# Altium schematic symbol library C_TDK.SchLib: 80 symbols
Pins are listed as number, name and electrical type; pins without a type are passive.

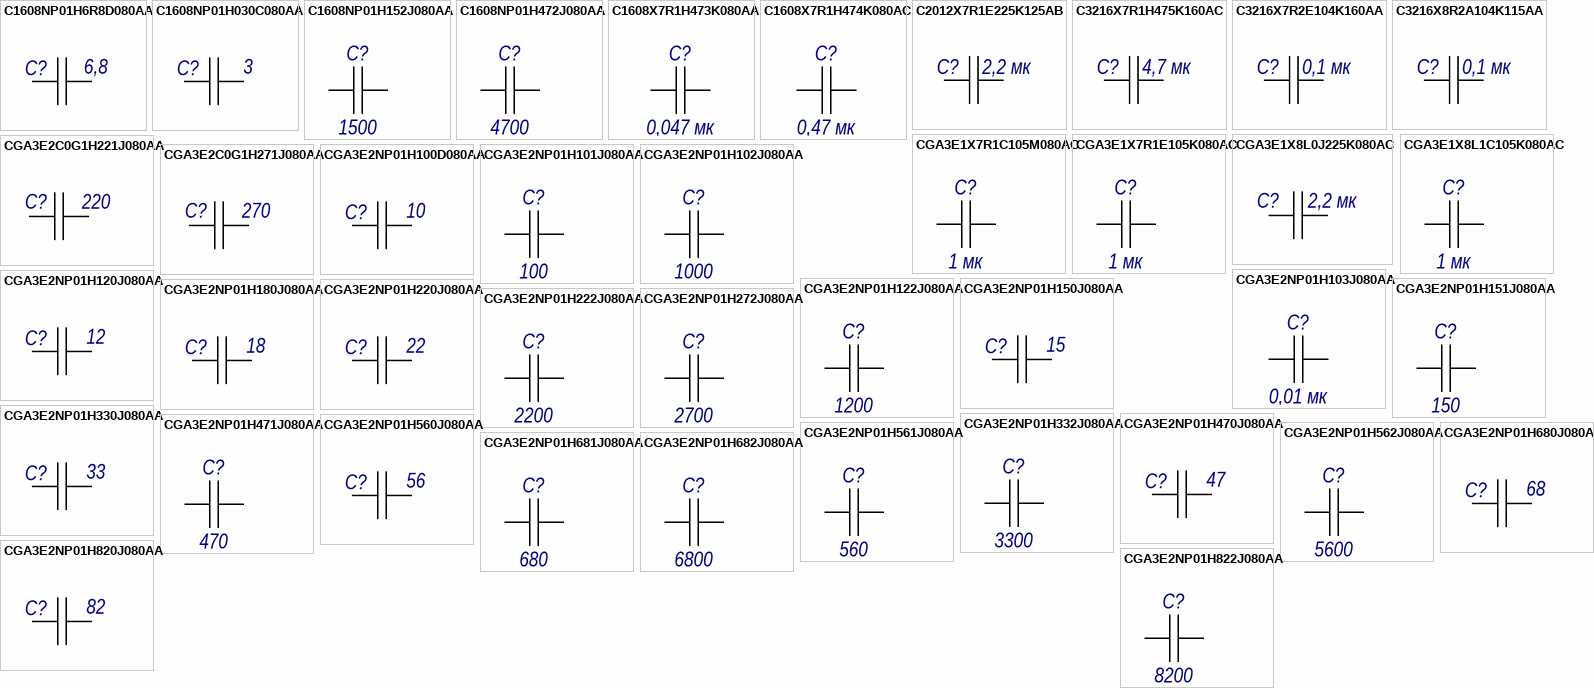
[diagram p0: symbols C1608NP01H6R8D080AA to CGA3E2NP01H822J080AA]

## C1608NP01H6R8D080AA
designator C?, comment value 6,8  (hidden comment: Конденсатор C1608NP01H6R8D080AA фирма "TDK")
чип 0603-NP0-50 В-6,8 п ±0,5 п TDK; TCh: ±0,5 п; NomU: 50 В; TKE: NP0; Manufacturer: TDK; PartNumber: C1608NP01H6R8D080AA; GOST: Конденсатор C1608NP01H6R8D080AA фирма "TDK"
footprint C0603_H090M (Dim 1.6mm*0.8mm H=0.9mm)
pins: 1, 2
1 alternate drawing of the same symbol

## C1608NP01H030C080AA
designator C?, comment value 3  (hidden comment: Конденсатор C1608NP01H030C080AA фирма "TDK")
чип 0603-NP0-50 В-3 п ± 0,25 пФ TDK; TCh: ±0,25 пФ; NomU: 50 В; TKE: NP0; Manufacturer: TDK; PartNumber: C1608NP01H030C080AA; GOST: Конденсатор C1608NP01H030C080AA фирма "TDK"
footprint C0603_H090M (Dim 1.6mm*0.8mm H=0.9mm)
pins: 1, 2
1 alternate drawing of the same symbol

## C1608NP01H152J080AA
designator C?, comment value 1500  (hidden comment: Конденсатор C1608NP01H152J080AA фирма "TDK")
чип 0603-NP0-50 В-1500 п ±5% TDK; NomU: 50 В; TKE: NP0; Manufacturer: TDK; PartNumber: C1608NP01H152J080AA; TCh: 5%; GOST: Конденсатор C1608NP01H152J080AA фирма "TDK"
footprint C0603_H090M (Dim 1.6mm*0.8mm H=0.9mm)
pins: 1, 2
1 alternate drawing of the same symbol

## C1608NP01H472J080AA
designator C?, comment value 4700  (hidden comment: Конденсатор C1608NP01H472J080AA фирма "TDK")
чип 0603-NP0-50 В-4700 п ±5% TDK; NomU: 50 В; TKE: NP0; Manufacturer: TDK; PartNumber: C1608NP01H472J080AA; TCh: 5%; GOST: Конденсатор C1608NP01H472J080AA фирма "TDK"
footprint C0603_H090M (Dim 1.6mm*0.8mm H=0.9mm)
pins: 1, 2
1 alternate drawing of the same symbol

## C1608X7R1H473K080AA
designator C?, comment value 0,047 мк  (hidden comment: Конденсатор C1608X7R1H473K080AA фирма "TDK")
чип 0603-X7R-50 В-0,047 мк ±10%  TDK; NomU: 50 В; TKE: X7R; Manufacturer: TDK; PartNumber: C1608X7R1H473K080AA; TCh: 10%; GOST: Конденсатор C1608X7R1H473K080AA фирма "TDK"
footprint C0603_H090M (Dim 1.6mm*0.8mm H=0.9mm)
pins: 1, 2
1 alternate drawing of the same symbol

## C1608X7R1H474K080AC
designator C?, comment value 0,47 мк  (hidden comment: Конденсатор C1608X7R1H474K080AC фирма "TDK")
чип 0603-X7R-50 В-0,47 мк ±10% TDK; NomU: 50 В; TKE: X7R; Manufacturer: TDK; PartNumber: C1608X7R1H474K080AC; TCh: 10%; GOST: Конденсатор C1608X7R1H474K080AC фирма "TDK"
footprint C0603_H090M (Dim 1.6mm*0.8mm H=0.9mm)
pins: 1, 2
1 alternate drawing of the same symbol

## C2012X7R1E225K125AB
designator C?, comment value 2,2 мк  (hidden comment: Конденсатор C2012X7R1E225K125AB фирма "TDK")
чип 0805-X7R-25 В-2,2 мк ±10% TDK; NomU: 25В; TKE: X7R; Manufacturer: TDK; PartNumber: C2012X7R1E225K125AB; TCh: 10%; GOST: Конденсатор C2012X7R1E225K125AB фирма "TDK"
footprint C0805_H135M (Dim 2mm*1.25mm H=1.35mm)
pins: 1, 2
1 alternate drawing of the same symbol

## C3216X7R1H475K160AC
designator C?, comment value 4,7 мк  (hidden comment: Конденсатор C3216X7R1H475K160AC фирма "TDK")
чип 1206-X7R-50 В-4,7 мк ±10% TDK; NomU: 50В; TKE: X7R; Manufacturer: TDK; PartNumber: C3216X7R1H475K160AC; TCh: 10%; GOST: Конденсатор C3216X7R1H475K160AC фирма "TDK"
footprint C1206_H180M (Dim 3.2mm*1.6mm H=1.8mm)
pins: 1, 2
1 alternate drawing of the same symbol

## C3216X7R2E104K160AA
designator C?, comment value 0,1 мк  (hidden comment: Конденсатор C3216X7R2E104K160AA фирма "TDK")
чип 1206-X7R-250 В-0,1 мк ±10% TDK; NomU: 250В; TKE: X7R; Manufacturer: TDK; PartNumber: C3216X7R2E104K160AA; TCh: 10%; GOST: Конденсатор C3216X7R2E104K160AA фирма "TDK"
footprint C1206_H180M (Dim 3.2mm*1.6mm H=1.8mm)
pins: 1, 2
1 alternate drawing of the same symbol

## C3216X8R2A104K115AA
designator C?, comment value 0,1 мк  (hidden comment: Конденсатор C3216X8R2A104K115AA фирма "TDK")
чип 1206-X8R-100 В-0,1 мк ±10% TDK; NomU: 100В; TKE: X8R; Manufacturer: TDK; PartNumber: C3216X8R2A104K115AA; TCh: 10%; GOST: Конденсатор C3216X8R2A104K115AA фирма "TDK"
footprint C1206_H130M (Dim 3.2mm*1.6mm H=1.15mm)
pins: 1, 2
1 alternate drawing of the same symbol

## CGA3E1X7R1C105M080AC
designator C?, comment value 1 мк  (hidden comment: Конденсатор CGA3E1X7R1C105M080AC фирма "TDK")
чип 0603-X7R-16 В-1 мк ±20% TDK; NomU: 16 В; TKE: X7R; Manufacturer: TDK; PartNumber: CGA3E1X7R1C105M080AC; TCh: 20%; GOST: Конденсатор CGA3E1X7R1C105M080AC фирма "TDK"
footprint C0603_H090M (Dim 1.6mm*0.8mm H=0.9mm)
pins: 1, 2
1 alternate drawing of the same symbol

## CGA3E1X7R1E105K080AC
designator C?, comment value 1 мк  (hidden comment: Конденсатор CGA3E1X7R1E105K080AC фирма "TDK")
чип 0603-X7R-25 В-1 мк ±10% TDK; NomU: 25 В; TKE: X7R; Manufacturer: TDK; PartNumber: CGA3E1X7R1E105K080AC; TCh: 10%; GOST: Конденсатор CGA3E1X7R1E105K080AC фирма "TDK"
footprint C0603_H090M (Dim 1.6mm*0.8mm H=0.9mm)
pins: 1, 2
1 alternate drawing of the same symbol

## CGA3E1X8L0J225K080AC
designator C?, comment value 2,2 мк  (hidden comment: Конденсатор CGA3E1X8L0J225K080AC фирма "TDK")
чип 0603-X8L-6,3 В-2,2 мк ±10% TDK 150C; NomU: 6,3 В; TKE: X8L; Manufacturer: TDK; PartNumber: CGA3E1X8L0J225K080AC; TCh: 10%; GOST: Конденсатор CGA3E1X8L0J225K080AC фирма "TDK"
footprint C0603_H090M (Dim 1.6mm*0.8mm H=0.9mm)
pins: 1, 2
1 alternate drawing of the same symbol

## CGA3E1X8L1C105K080AC
designator C?, comment value 1 мк  (hidden comment: Конденсатор CGA3E1X8L1C105K080AC фирма "TDK")
чип 0603-X8L-16 В-1 мк ±10% TDK; NomU: 16 В; TKE: X8L; Manufacturer: TDK; PartNumber: CGA3E1X8L1C105K080AC; TCh: 10%; GOST: Конденсатор CGA3E1X8L1C105K080AC фирма "TDK"
footprint C0603_H090M (Dim 1.6mm*0.8mm H=0.9mm)
pins: 1, 2
1 alternate drawing of the same symbol

## CGA3E2C0G1H221J080AA
designator C?, comment value 220  (hidden comment: Конденсатор CGA3E2C0G1H221J080AA фирма "TDK")
чип 0603-NP0-50 В-220 п ±5% TDK; NomU: 50В; TKE: NPO; Manufacturer: TDK; PartNumber: CGA3E2C0G1H221J080AA; TCh: 5%; GOST: Конденсатор CGA3E2C0G1H221J080AA фирма "TDK"
footprint C0603_H090M (Dim 1.6mm*0.8mm H=0.9mm)
pins: 1, 2
1 alternate drawing of the same symbol

## CGA3E2C0G1H271J080AA
designator C?, comment value 270  (hidden comment: Конденсатор CGA3E2C0G1H271J080AA фирма "TDK")
чип 0603-NP0-50 В-270 п ±5% TDK; NomU: 50В; TKE: NPO; Manufacturer: TDK; PartNumber: CGA3E2C0G1H271J080AA; TCh: 5%; GOST: Конденсатор CGA3E2C0G1H271J080AA фирма "TDK"
footprint C0603_H090M (Dim 1.6mm*0.8mm H=0.9mm)
pins: 1, 2
1 alternate drawing of the same symbol

## CGA3E2NP01H100D080AA
designator C?, comment value 10  (hidden comment: Конденсатор CGA3E2NP01H100D080AA фирма "TDK")
чип 0603-NP0-50 В-10 п ±0,5п TDK; TCh: ±0,5 п; NomU: 50 В; TKE: NP0; Manufacturer: TDK; PartNumber: CGA3E2NP01H100D080AA; GOST: Конденсатор CGA3E2NP01H100D080AA фирма "TDK"
footprint C0603_H090M (Dim 1.6mm*0.8mm H=0.9mm)
pins: 1, 2
1 alternate drawing of the same symbol

## CGA3E2NP01H101J080AA
designator C?, comment value 100  (hidden comment: Конденсатор CGA3E2NP01H101J080AA фирма "TDK")
чип 0603-NP0-50 В-100 п ±5% TDK; NomU: 50 В; TKE: NP0; Manufacturer: TDK; PartNumber: CGA3E2NP01H101J080AA; TCh: 5%; GOST: Конденсатор CGA3E2NP01H101J080AA фирма "TDK"
footprint C0603_H090M (Dim 1.6mm*0.8mm H=0.9mm)
footprint C0603_H090M (Dim 1.6mm*0.8mm H=0.9mm)
pins: 1, 2
1 alternate drawing of the same symbol

## CGA3E2NP01H102J080AA
designator C?, comment value 1000  (hidden comment: Конденсатор CGA3E2NP01H102J080AA фирма "TDK")
чип 0603-NP0-50 В-1000 п ±5% TDK; NomU: 50 В; TKE: NP0; Manufacturer: TDK; PartNumber: CGA3E2NP01H102J080AA; TCh: 5%; GOST: Конденсатор CGA3E2NP01H102J080AA фирма "TDK"
footprint C0603_H090M (Dim 1.6mm*0.8mm H=0.9mm)
pins: 1, 2
1 alternate drawing of the same symbol

## CGA3E2NP01H103J080AA
designator C?, comment value 0,01 мк  (hidden comment: Конденсатор CGA3E2NP01H103J080AA фирма "TDK")
чип 0603-NP0-50 В-0,01 мк ±5% TDK; NomU: 50 В; TKE: NP0; Manufacturer: TDK; PartNumber: CGA3E2NP01H103J080AA; TCh: 5%; GOST: Конденсатор CGA3E2NP01H103J080AA фирма "TDK"
footprint C0603_H090M (Dim 1.6mm*0.8mm H=0.9mm)
pins: 1, 2
1 alternate drawing of the same symbol

## CGA3E2NP01H120J080AA
designator C?, comment value 12  (hidden comment: Конденсатор CGA3E2NP01H120J080AA фирма "TDK")
чип 0603-NP0-50 В-12 п ±5 % TDK; TCh: ±5 %; NomU: 50 В; TKE: NP0; Manufacturer: TDK; PartNumber: CGA3E2NP01H120J080AA; GOST: Конденсатор CGA3E2NP01H120J080AA фирма "TDK"
footprint C0603_H090M (Dim 1.6mm*0.8mm H=0.9mm)
pins: 1, 2
1 alternate drawing of the same symbol

## CGA3E2NP01H122J080AA
designator C?, comment value 1200  (hidden comment: Конденсатор CGA3E2NP01H122J080AA фирма "TDK")
чип 0603-NP0-50 В-1200 п NP0 ±5% TDK; NomU: 50 В; Manufacturer: TDK; PartNumber: CGA3E2NP01H122J080AA; TCh: 5%; TKE: NP0; GOST: Конденсатор CGA3E2NP01H122J080AA фирма "TDK"
footprint C0603_H090M (Dim 1.6mm*0.8mm H=0.9mm)
pins: 1, 2
1 alternate drawing of the same symbol

## CGA3E2NP01H150J080AA
designator C?, comment value 15  (hidden comment: Конденсатор CGA3E2NP01H150J080AA фирма "TDK")
чип 0603-NP0-50 В-15 п ±5 % TDK; TCh: ±5 %; NomU: 50 В; TKE: NP0; Manufacturer: TDK; PartNumber: CGA3E2NP01H150J080AA; GOST: Конденсатор CGA3E2NP01H150J080AA фирма "TDK"
footprint C0603_H090M (Dim 1.6mm*0.8mm H=0.9mm)
pins: 1, 2
1 alternate drawing of the same symbol

## CGA3E2NP01H151J080AA
designator C?, comment value 150  (hidden comment: Конденсатор CGA3E2NP01H151J080AA фирма "TDK")
чип 0603-NP0-50 В-150 п ±5% TDK; NomU: 50 В; TKE: NP0; Manufacturer: TDK; PartNumber: CGA3E2NP01H151J080AA; TCh: 5%; GOST: Конденсатор CGA3E2NP01H151J080AA фирма "TDK"
footprint C0603_H090M (Dim 1.6mm*0.8mm H=0.9mm)
pins: 1, 2
1 alternate drawing of the same symbol

## CGA3E2NP01H180J080AA
designator C?, comment value 18  (hidden comment: Конденсатор CGA3E2NP01H180J080AA фирма "TDK")
чип 0603-NP0-50 В-18 п ±5 % TDK; TCh: ±5 %; NomU: 50 В; TKE: NP0; Manufacturer: TDK; PartNumber: CGA3E2NP01H180J080AA; GOST: Конденсатор CGA3E2NP01H180J080AA фирма "TDK"
footprint C0603_H090M (Dim 1.6mm*0.8mm H=0.9mm)
pins: 1, 2
1 alternate drawing of the same symbol

## CGA3E2NP01H220J080AA
designator C?, comment value 22  (hidden comment: Конденсатор CGA3E2NP01H220J080AA фирма "TDK")
чип 0603-NP0-50 В-22 п ±5 % TDK; TCh: ±5 %; NomU: 50 В; TKE: NP0; Manufacturer: TDK; PartNumber: CGA3E2NP01H220J080AA; GOST: Конденсатор CGA3E2NP01H220J080AA фирма "TDK"
footprint C0603_H090M (Dim 1.6mm*0.8mm H=0.9mm)
pins: 1, 2
1 alternate drawing of the same symbol

## CGA3E2NP01H222J080AA
designator C?, comment value 2200  (hidden comment: Конденсатор CGA3E2NP01H222J080AA фирма "TDK")
чип 0603-NP0-50 В-2200 п ±5% TDK; NomU: 50 В; TKE: NP0; Manufacturer: TDK; PartNumber: CGA3E2NP01H222J080AA; TCh: 5%; GOST: Конденсатор CGA3E2NP01H222J080AA фирма "TDK"
footprint C0603_H090M (Dim 1.6mm*0.8mm H=0.9mm)
pins: 1, 2
1 alternate drawing of the same symbol

## CGA3E2NP01H272J080AA
designator C?, comment value 2700  (hidden comment: Конденсатор CGA3E2NP01H272J080AA фирма "TDK")
чип 0603-NP0-50 В-2700 п ±5% TDK; NomU: 50 В; TKE: NP0; Manufacturer: TDK; PartNumber: CGA3E2NP01H272J080AA; TCh: 5%; GOST: Конденсатор CGA3E2NP01H272J080AA фирма "TDK"
footprint C0603_H090M (Dim 1.6mm*0.8mm H=0.9mm)
pins: 1, 2
1 alternate drawing of the same symbol

## CGA3E2NP01H330J080AA
designator C?, comment value 33  (hidden comment: Конденсатор CGA3E2NP01H330J080AA фирма "TDK")
чип 0603-NP0-50 В-33 п ±5 % TDK; TCh: ±5 %; NomU: 50 В; TKE: NP0; Manufacturer: TDK; PartNumber: CGA3E2NP01H330J080AA; GOST: Конденсатор CGA3E2NP01H330J080AA фирма "TDK"
footprint C0603_H090M (Dim 1.6mm*0.8mm H=0.9mm)
pins: 1, 2
1 alternate drawing of the same symbol

## CGA3E2NP01H332J080AA
designator C?, comment value 3300  (hidden comment: Конденсатор CGA3E2NP01H332J080AA фирма "TDK")
чип 0603-NP0-50 В-3300 п ±5% TDK; NomU: 50 В; TKE: NP0; Manufacturer: TDK; PartNumber: CGA3E2NP01H332J080AA; TCh: 5%; GOST: Конденсатор CGA3E2NP01H332J080AA фирма "TDK"
footprint C0603_H090M (Dim 1.6mm*0.8mm H=0.9mm)
pins: 1, 2
1 alternate drawing of the same symbol

## CGA3E2NP01H470J080AA
designator C?, comment value 47  (hidden comment: Конденсатор CGA3E2NP01H470J080AA фирма "TDK")
чип 0603-NP0-50 В-47 п ±5 % TDK; TCh: ±5 %; NomU: 50 В; TKE: NP0; Manufacturer: TDK; PartNumber: CGA3E2NP01H470J080AA; GOST: Конденсатор CGA3E2NP01H470J080AA фирма "TDK"; Size: 1.6x0.8x0.8
footprint C0603_H090M (Dim 1.6mm*0.8mm H=0.9mm)
pins: 1, 2
1 alternate drawing of the same symbol

## CGA3E2NP01H471J080AA
designator C?, comment value 470  (hidden comment: Конденсатор CGA3E2NP01H471J080AA фирма "TDK")
чип 0603-NP0-50 В-470 п ±5% TDK; NomU: 50 В; TKE: NP0; Manufacturer: TDK; PartNumber: CGA3E2NP01H471J080AA; TCh: 5%; GOST: Конденсатор CGA3E2NP01H471J080AA фирма "TDK"
footprint C0603_H090M (Dim 1.6mm*0.8mm H=0.9mm)
pins: 1, 2
1 alternate drawing of the same symbol

## CGA3E2NP01H560J080AA
designator C?, comment value 56  (hidden comment: Конденсатор CGA3E2NP01H560J080AA фирма "TDK")
чип 0603-NP0-50 В-56 п ±5 % TDK; TCh: ±5 %; NomU: 50 В; TKE: NP0; Manufacturer: TDK; PartNumber: CGA3E2NP01H560J080AA; GOST: Конденсатор CGA3E2NP01H560J080AA фирма "TDK"; Size: 1.6x0.8x0.8
footprint C0603_H090M (Dim 1.6mm*0.8mm H=0.9mm)
pins: 1, 2
1 alternate drawing of the same symbol

## CGA3E2NP01H561J080AA
designator C?, comment value 560  (hidden comment: Конденсатор CGA3E2NP01H561J080AA фирма "TDK")
чип 0603-NP0-50 В-560 п NP0 ±5% TDK; NomU: 50 В; Manufacturer: TDK; PartNumber: CGA3E2NP01H561J080AA; TCh: 5%; TKE: NP0; GOST: Конденсатор CGA3E2NP01H561J080AA фирма "TDK"
footprint C0603_H090M (Dim 1.6mm*0.8mm H=0.9mm)
pins: 1, 2
1 alternate drawing of the same symbol

## CGA3E2NP01H562J080AA
designator C?, comment value 5600  (hidden comment: Конденсатор CGA3E2NP01H562J080AA фирма "TDK")
чип 0603-NP0-50 В-5600 п ±5% TDK; NomU: 50 В; TKE: NP0; Manufacturer: TDK; PartNumber: CGA3E2NP01H562J080AA; TCh: 5%; GOST: Конденсатор CGA3E2NP01H562J080AA фирма "TDK"
footprint C0603_H090M (Dim 1.6mm*0.8mm H=0.9mm)
pins: 1, 2
1 alternate drawing of the same symbol

## CGA3E2NP01H680J080AA
designator C?, comment value 68  (hidden comment: Конденсатор CGA3E2NP01H680J080AA фирма "TDK")
чип 0603-NP0-50 В-68 п ±5 % TDK; TCh: ±5 %; NomU: 50 В; TKE: NP0; Manufacturer: TDK; PartNumber: CGA3E2NP01H680J080AA; GOST: Конденсатор CGA3E2NP01H680J080AA фирма "TDK"
footprint C0603_H090M (Dim 1.6mm*0.8mm H=0.9mm)
pins: 1, 2
1 alternate drawing of the same symbol

## CGA3E2NP01H681J080AA
designator C?, comment value 680  (hidden comment: Конденсатор CGA3E2NP01H681J080AA фирма "TDK")
чип 0603-NP0-50 В-680 п ±5% TDK; NomU: 50 В; TKE: NP0; Manufacturer: TDK; PartNumber: CGA3E2NP01H681J080AA; TCh: 5%; GOST: Конденсатор CGA3E2NP01H681J080AA фирма "TDK"
footprint C0603_H090M (Dim 1.6mm*0.8mm H=0.9mm)
pins: 1, 2
1 alternate drawing of the same symbol

## CGA3E2NP01H682J080AA
designator C?, comment value 6800  (hidden comment: Конденсатор CGA3E2NP01H682J080AA фирма "TDK")
чип 0603-NP0-50 В-6800 п ±5% TDK; NomU: 50 В; TKE: NP0; Manufacturer: TDK; PartNumber: CGA3E2NP01H682J080AA; TCh: 5%; GOST: Конденсатор CGA3E2NP01H682J080AA фирма "TDK"
footprint C0603_H090M (Dim 1.6mm*0.8mm H=0.9mm)
pins: 1, 2
1 alternate drawing of the same symbol

## CGA3E2NP01H820J080AA
designator C?, comment value 82  (hidden comment: Конденсатор CGA3E2NP01H820J080AA фирма "TDK")
чип 0603-NP0-50 В-82 п ±5 % TDK; TCh: ±5 %; NomU: 50 В; TKE: NP0; Manufacturer: TDK; PartNumber: CGA3E2NP01H820J080AA; GOST: Конденсатор CGA3E2NP01H820J080AA фирма "TDK"
footprint C0603_H090M (Dim 1.6mm*0.8mm H=0.9mm)
pins: 1, 2
1 alternate drawing of the same symbol

## CGA3E2NP01H822J080AA
designator C?, comment value 8200  (hidden comment: Конденсатор CGA3E2NP01H822J080AA фирма "TDK")
чип 0603-NP0-50 В-8200 п ±5% TDK; NomU: 50 В; TKE: NP0; Manufacturer: TDK; PartNumber: CGA3E2NP01H822J080AA; TCh: 5%; GOST: Конденсатор CGA3E2NP01H822J080AA фирма "TDK"
footprint C0603_H090M (Dim 1.6mm*0.8mm H=0.9mm)
pins: 1, 2
1 alternate drawing of the same symbol

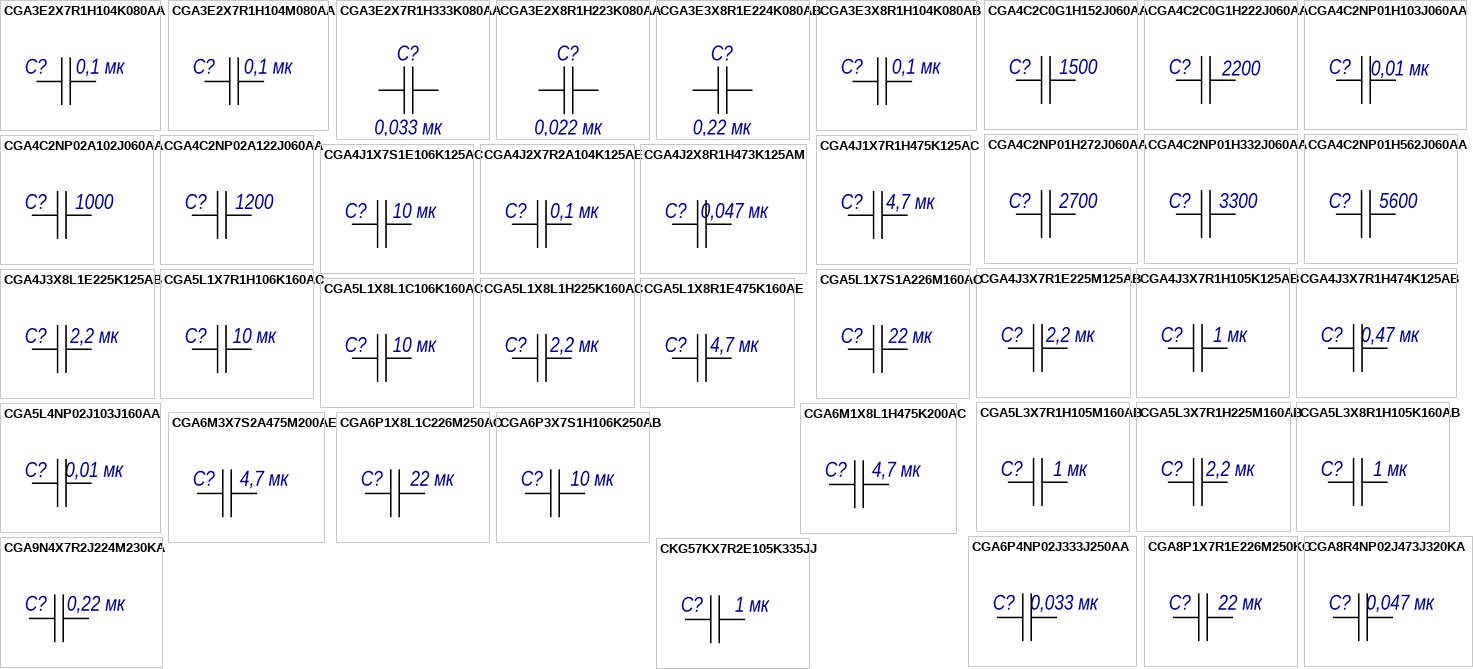
[diagram p1: symbols CGA3E2X7R1H104K080AA to CKG57KX7R2E105K335JJ]

## CGA3E2X7R1H104K080AA
designator C?, comment value 0,1 мк  (hidden comment: Конденсатор CGA3E2X7R1H104K080AA фирма "TDK")
чип 0603-X7R-50 В-0,1 мк ±10% TDK; NomU: 50 В; TKE: X7R; Manufacturer: TDK; PartNumber: CGA3E2X7R1H104K080AA; TCh: 10%; GOST: Конденсатор CGA3E2X7R1H104K080AA фирма "TDK"
footprint C0603_H090M (Dim 1.6mm*0.8mm H=0.9mm)
pins: 1, 2
1 alternate drawing of the same symbol

## CGA3E2X7R1H104M080AA
designator C?, comment value 0,1 мк  (hidden comment: Конденсатор CGA3E2X7R1H104M080AA фирма "TDK")
чип 0603-X7R-50 В-0,1 мк ±20% TDK; NomU: 50 В; TKE: X7R; Manufacturer: TDK; PartNumber: CGA3E2X7R1H104M080AA; TCh: 20%; GOST: Конденсатор CGA3E2X7R1H104M080AA фирма "TDK"
footprint C0603_H090M (Dim 1.6mm*0.8mm H=0.9mm)
pins: 1, 2
1 alternate drawing of the same symbol

## CGA3E2X7R1H333K080AA
designator C?, comment value 0,033 мк  (hidden comment: Конденсатор CGA3E2X7R1H333K080AA фирма "TDK")
чип 0603-X7R-50 В-0,033 мк ±10% TDK; NomU: 50 В; TKE: X7R; Manufacturer: TDK; PartNumber: CGA3E2X7R1H333K080AA; TCh: 10%; GOST: Конденсатор CGA3E2X7R1H333K080AA фирма "TDK"
footprint C0603_H090M (Dim 1.6mm*0.8mm H=0.9mm)
pins: 1, 2
1 alternate drawing of the same symbol

## CGA3E2X8R1H223K080AA
designator C?, comment value 0,022 мк  (hidden comment: Конденсатор CGA3E2X8R1H223K080AA фирма "TDK")
чип 0603-X8R-50 В-0,022 мк ±10% TDK; NomU: 50 В; TKE: X8R; Manufacturer: TDK; PartNumber: CGA3E2X8R1H223K080AA; TCh: 10%; GOST: Конденсатор CGA3E2X8R1H223K080AA фирма "TDK"
footprint C0603_H090M (Dim 1.6mm*0.8mm H=0.9mm)
pins: 1, 2
1 alternate drawing of the same symbol

## CGA3E3X8R1E224K080AB
designator C?, comment value 0,22 мк  (hidden comment: Конденсатор CGA3E3X8R1E224K080AB фирма "TDK")
чип 0603-X8R-25 В-0,22 мк ±10% TDK; NomU: 25 В; TKE: X8R; Manufacturer: TDK; PartNumber: CGA3E3X8R1E224K080AB; TCh: 10%; GOST: Конденсатор CGA3E3X8R1E224K080AB фирма "TDK"
footprint C0603_H090M (Dim 1.6mm*0.8mm H=0.9mm)
pins: 1, 2
1 alternate drawing of the same symbol

## CGA3E3X8R1H104K080AB
designator C?, comment value 0,1 мк  (hidden comment: Конденсатор CGA3E3X8R1H104K080AB фирма "TDK")
чип 0603-X8R-50 В-0,1 мк ±10% TDK; NomU: 50 В; TKE: X8R; Manufacturer: TDK; PartNumber: CGA3E3X8R1H104K080AB; TCh: 10%; GOST: Конденсатор CGA3E3X8R1H104K080AB фирма "TDK"
footprint C0603_H090M (Dim 1.6mm*0.8mm H=0.9mm)
pins: 1, 2
1 alternate drawing of the same symbol

## CGA4C2C0G1H152J060AA
designator C?, comment value 1500  (hidden comment: Конденсатор CGA4C2C0G1H152J060AA фирма "TDK")
чип 0805-NP0-50 В-1500 п ±5% TDK; NomU: 50В; TKE: NP0; Manufacturer: TDK; PartNumber: CGA4C2C0G1H152J060AA; TCh: 5%; GOST: Конденсатор CGA4C2C0G1H152J060AA фирма "TDK"
footprint C0805_H135M (Dim 2mm*1.25mm H=1.35mm)
pins: 1, 2
1 alternate drawing of the same symbol

## CGA4C2C0G1H222J060AA
designator C?, comment value 2200  (hidden comment: Конденсатор CGA4C2C0G1H222J060AA фирма "TDK")
чип 0805-NP0-50 В-2200 п ±5% TDK; NomU: 50В; TKE: NP0; Manufacturer: TDK; PartNumber: CGA4C2C0G1H222J060AA; TCh: 5%; GOST: Конденсатор CGA4C2C0G1H222J060AA фирма "TDK"
footprint C0805_H090M (Dim 2mm*1.25mm H=0.9mm)
pins: 1, 2
1 alternate drawing of the same symbol

## CGA4C2NP01H103J060AA
designator C?, comment value 0,01 мк  (hidden comment: Конденсатор CGA4C2NP01H103J060AA фирма "TDK")
чип 0805-NP0-50 В-0,01 мк ± 5% TDK; NomU: 50В; TKE: NP0; Manufacturer: TDK; PartNumber: CGA4C2NP01H103J060AA; TCh: 5%; GOST: Конденсатор CGA4C2NP01H103J060AA фирма "TDK"
footprint C0805_H090M (Dim 2mm*1.25mm H=0.9mm)
pins: 1, 2
1 alternate drawing of the same symbol

## CGA4C2NP01H272J060AA
designator C?, comment value 2700  (hidden comment: Конденсатор CGA4C2NP01H272J060AA фирма "TDK")
чип 0805-NP0-50 В-2700 п ±5% TDK; NomU: 50В; TKE: NP0; Dim: 2х1.25х0.6 mm; Manufacturer: TDK; PartNumber: CGA4C2NP01H272J060AA; TCh: 5%; GOST: Конденсатор CGA4C2NP01H272J060AA фирма "TDK"
footprint C0805_H090M (Dim 2mm*1.25mm H=0.9mm)
pins: 1, 2
1 alternate drawing of the same symbol

## CGA4C2NP01H332J060AA
designator C?, comment value 3300  (hidden comment: Конденсатор CGA4C2NP01H332J060AA фирма "TDK")
чип 0805-NP0-50 В-3300 п ±5% TDK; NomU: 50В; TKE: NP0; Dim: 2х1.25х0.6 mm; Manufacturer: TDK; PartNumber: CGA4C2NP01H332J060AA; TCh: 5%; GOST: Конденсатор CGA4C2NP01H332J060AA фирма "TDK"
footprint C0805_H090M (Dim 2mm*1.25mm H=0.9mm)
pins: 1, 2
1 alternate drawing of the same symbol

## CGA4C2NP01H562J060AA
designator C?, comment value 5600  (hidden comment: Конденсатор CGA4C2NP01H562J060AA фирма "TDK")
чип 0805-NP0-50 В-5600 п ±5% TDK; NomU: 50В; TKE: NP0; Dim: 2х1.25х0.6 mm; Manufacturer: TDK; PartNumber: CGA4C2NP01H562J060AA; TCh: 5%; GOST: Конденсатор CGA4C2NP01H562J060AA фирма "TDK"
footprint C0805_H090M (Dim 2mm*1.25mm H=0.9mm)
pins: 1, 2
1 alternate drawing of the same symbol

## CGA4C2NP02A102J060AA
designator C?, comment value 1000  (hidden comment: Конденсатор CGA4C2NP02A102J060AA фирма "TDK")
чип 0805-NP0-100 В-1000 п ±5% TDK; NomU: 100В; TKE: NP0; Dim: 2х1.25х0.75 mm; Manufacturer: TDK; PartNumber: CGA4C2NP02A102J060AA; TCh: 5%; GOST: Конденсатор CGA4C2NP02A102J060AA фирма "TDK"
footprint C0805_H090M (Dim 2mm*1.25mm H=0.9mm)
pins: 1, 2
1 alternate drawing of the same symbol

## CGA4C2NP02A122J060AA
designator C?, comment value 1200  (hidden comment: Конденсатор CGA4C2NP02A122J060AA фирма "TDK")
чип 0805-NP0-100 В-1200 п ±5% TDK; NomU: 100В; TKE: NP0; Dim: 2х1.25х0.6 mm; Manufacturer: TDK; PartNumber: CGA4C2NP02A122J060AA; TCh: 5%; GOST: Конденсатор CGA4C2NP02A122J060AA фирма "TDK"
footprint C0805_H090M (Dim 2mm*1.25mm H=0.9mm)
pins: 1, 2
1 alternate drawing of the same symbol

## CGA4J1X7R1H475K125AC
designator C?, comment value 4,7 мк  (hidden comment: Конденсатор CGA4J1X7R1H475K125AC фирма "TDK")
чип 0805-X7R-50 В-4,7 мк ±10% TDK; NomU: 50В; TKE: X7R; Manufacturer: TDK; PartNumber: CGA4J1X7R1H475K125AC; TCh: 10%; GOST: Конденсатор CGA4J1X7R1H475K125AC фирма "TDK"
footprint C0805_H135M (Dim 2mm*1.25mm H=1.35mm)
pins: 1, 2
1 alternate drawing of the same symbol

## CGA4J1X7S1E106K125AC
designator C?, comment value 10 мк  (hidden comment: Конденсатор CGA4J1X7S1E106K125AC фирма "TDK")
чип 0805-X7S-25 В-10 мк ±10% TDK; NomU: 25В; TKE: X7S; Manufacturer: TDK; PartNumber: CGA4J1X7S1E106K125AC; TCh: 10%; GOST: Конденсатор CGA4J1X7S1E106K125AC фирма "TDK"
footprint C0805_H135M (Dim 2mm*1.25mm H=1.35mm)
pins: 1, 2
1 alternate drawing of the same symbol

## CGA4J2X7R2A104K125AE
designator C?, comment value 0,1 мк  (hidden comment: Конденсатор CGA4J2X7R2A104K125AE фирма "TDK")
чип 0805-X7R-100 В-0,1 мк ±10% TDK; NomU: 100В; TKE: X7R; Manufacturer: TDK; PartNumber: CGA4J2X7R2A104K125AE; TCh: 10%; GOST: Конденсатор CGA4J2X7R2A104K125AE фирма "TDK"
footprint C0805_H135M (Dim 2mm*1.25mm H=1.35mm)
pins: 1, 2
1 alternate drawing of the same symbol

## CGA4J2X8R1H473K125AM
designator C?, comment value 0,047 мк  (hidden comment: Конденсатор CGA4J2X8R1H473K125AM фирма "TDK")
чип 0805-X8R-50 В-0,047 мк ±10% TDK; NomU: 50В; TKE: X8R; Manufacturer: TDK; PartNumber: CGA4J2X8R1H473K125AM; TCh: 10%; GOST: Конденсатор CGA4J2X8R1H473K125AM фирма "TDK"
footprint C0805_H135M (Dim 2mm*1.25mm H=1.35mm)
pins: 1, 2
1 alternate drawing of the same symbol

## CGA4J3X7R1E225M125AB
designator C?, comment value 2,2 мк  (hidden comment: Конденсатор CGA4J3X7R1E225M125AB фирма "TDK")
чип 0805-X7R-25 В-2,2 мк ±20% TDK; NomU: 25В; TKE: X7R; Manufacturer: TDK; PartNumber: CGA4J3X7R1E225M125AB; TCh: 20%; GOST: Конденсатор CGA4J3X7R1E225M125AB фирма "TDK"
footprint C0805_H135M (Dim 2mm*1.25mm H=1.35mm)
pins: 1, 2
1 alternate drawing of the same symbol

## CGA4J3X7R1H105K125AB
designator C?, comment value 1 мк  (hidden comment: Конденсатор CGA4J3X7R1H105K125AB  фирма "TDK")
чип 0805-X7R-50 В-1 мк ±10% TDK; NomU: 50В; TKE: X7R; Manufacturer: TDK; PartNumber: CGA4J3X7R1H105K125AB; TCh: 10%; GOST: Конденсатор CGA4J3X7R1H105K125AB  фирма "TDK"
footprint C0805_H135M (Dim 2mm*1.25mm H=1.35mm)
pins: 1, 2
1 alternate drawing of the same symbol

## CGA4J3X7R1H474K125AB
designator C?, comment value 0,47 мк  (hidden comment: Конденсатор CGA4J3X7R1H474K125AB фирма "TDK")
чип 0805-X7R-50 В-0,47 мк ±10% TDK; NomU: 50В; TKE: X7R; Manufacturer: TDK; PartNumber: CGA4J3X7R1H474K125AB; TCh: 10%; GOST: Конденсатор CGA4J3X7R1H474K125AB фирма "TDK"
footprint C0805_H135M (Dim 2mm*1.25mm H=1.35mm)
pins: 1, 2
1 alternate drawing of the same symbol

## CGA4J3X8L1E225K125AB
designator C?, comment value 2,2 мк  (hidden comment: Конденсатор CGA4J3X8L1E225K125AB фирма "TDK")
чип 0805-X8L-25 В-2,2 мк ±10% TDK; NomU: 25В; TKE: X8L; Manufacturer: TDK; PartNumber: CGA4J3X8L1E225K125AB; TCh: 10%; GOST: Конденсатор CGA4J3X8L1E225K125AB фирма "TDK"
footprint C0805_H135M (Dim 2mm*1.25mm H=1.35mm)
pins: 1, 2
1 alternate drawing of the same symbol

## CGA5L1X7R1H106K160AC
designator C?, comment value 10 мк  (hidden comment: Конденсатор CGA5L1X7R1H106K160AC фирма "TDK")
чип 1206-X7R-50 В-10 мк ±10% TDK; NomU: 50В; TKE: X7R; Manufacturer: TDK; PartNumber: CGA5L1X7R1H106K160AC; TCh: 10%; GOST: Конденсатор CGA5L1X7R1H106K160AC фирма "TDK"
footprint C1206_H180M (Dim 3.2mm*1.6mm H=1.8mm)
pins: 1, 2
1 alternate drawing of the same symbol

## CGA5L1X7S1A226M160AC
designator C?, comment value 22 мк  (hidden comment: Конденсатор CGA5L1X7S1A226M160AC фирма "TDK")
чип 1206-X7S-10 В-22 мк ±20% TDK; NomU: 10В; TKE: X7S; Manufacturer: TDK; PartNumber: CGA5L1X7S1A226M160AC; TCh: 20%; GOST: Конденсатор CGA5L1X7S1A226M160AC фирма "TDK"
footprint C1206_H180M (Dim 3.2mm*1.6mm H=1.8mm)
pins: 1, 2
1 alternate drawing of the same symbol

## CGA5L1X8L1C106K160AC
designator C?, comment value 10 мк  (hidden comment: Конденсатор CGA5L1X8L1C106K160AC фирма "TDK")
чип 1206-X8L-16 В-10 мк ±10% TDK; NomU: 16В; TKE: X8L; Manufacturer: TDK; PartNumber: CGA5L1X8L1C106K160AC; TCh: 10%; GOST: Конденсатор CGA5L1X8L1C106K160AC фирма "TDK"
footprint C1206_H180M (Dim 3.2mm*1.6mm H=1.8mm)
pins: 1, 2
1 alternate drawing of the same symbol

## CGA5L1X8L1H225K160AC
designator C?, comment value 2,2 мк  (hidden comment: Конденсатор CGA5L1X8L1H225K160AC фирма "TDK")
чип 1206-X8L-50 В-2,2 мк ±10% TDK; NomU: 50В; TKE: X8L; Manufacturer: TDK; PartNumber: CGA5L1X8L1H225K160AC; TCh: 10%; GOST: Конденсатор CGA5L1X8L1H225K160AC фирма "TDK"
footprint C1206_H180M (Dim 3.2mm*1.6mm H=1.8mm)
pins: 1, 2
1 alternate drawing of the same symbol

## CGA5L1X8R1E475K160AE
designator C?, comment value 4,7 мк  (hidden comment: Конденсатор CGA5L1X8R1E475K160AE  фирма "TDK")
чип 1206-X8R-25 В-4,7 мк ±10% TDK; NomU: 25В; TKE: X8R; Manufacturer: TDK; PartNumber: CGA5L1X8R1E475K160AE; TCh: 10%; GOST: Конденсатор CGA5L1X8R1E475K160AE  фирма "TDK"
footprint C1206_H180M (Dim 3.2mm*1.6mm H=1.8mm)
pins: 1, 2
1 alternate drawing of the same symbol

## CGA5L3X7R1H105M160AB
designator C?, comment value 1 мк  (hidden comment: Конденсатор CGA5L3X7R1H105M160AB фирма "TDK")
чип 1206-X7R-50 В-1 мк ±20% TDK; NomU: 50В; TKE: X7R; Manufacturer: TDK; PartNumber: CGA5L3X7R1H105M160AB; TCh: 20%; GOST: Конденсатор CGA5L3X7R1H105M160AB фирма "TDK"
footprint C1206_H180M (Dim 3.2mm*1.6mm H=1.8mm)
pins: 1, 2
1 alternate drawing of the same symbol

## CGA5L3X7R1H225M160AB
designator C?, comment value 2,2 мк  (hidden comment: Конденсатор CGA5L3X7R1H225M160AB фирма "TDK")
чип 1206-X7R-50 В-2,2 мк ±20% TDK; NomU: 50В; TKE: X7R; Manufacturer: TDK; PartNumber: CGA5L3X7R1H225M160AB; TCh: 20%; GOST: Конденсатор CGA5L3X7R1H225M160AB фирма "TDK"
footprint C1206_H180M (Dim 3.2mm*1.6mm H=1.8mm)
pins: 1, 2
1 alternate drawing of the same symbol

## CGA5L3X8R1H105K160AB
designator C?, comment value 1 мк  (hidden comment: Конденсатор CGA5L3X8R1H105K160AB фирма "TDK")
чип 1206-X8R-50 В-1 мк ±10% TDK; NomU: 50В; TKE: X8R; Manufacturer: TDK; PartNumber: CGA5L3X8R1H105K160AB; TCh: 10%; GOST: Конденсатор CGA5L3X8R1H105K160AB фирма "TDK"
footprint C1206_H180M (Dim 3.2mm*1.6mm H=1.8mm)
pins: 1, 2
1 alternate drawing of the same symbol

## CGA5L4NP02J103J160AA
designator C?, comment value 0,01 мк  (hidden comment: Конденсатор CGA5L4NP02J103J160AA фирма "TDK")
чип 1206-NP0-630 В-0,01 мк ±5% TDK; NomU: 630В; TKE: NP0; Manufacturer: TDK; PartNumber: CGA5L4NP02J103J160AA; TCh: 5%; GOST: Конденсатор CGA5L4NP02J103J160AA фирма "TDK"
footprint C1206_H180M (Dim 3.2mm*1.6mm H=1.8mm)
pins: 1, 2
1 alternate drawing of the same symbol

## CGA6M1X8L1H475K200AC
designator C?, comment value 4,7 мк  (hidden comment: Конденсатор CGA6M1X8L1H475K200AC фирма "TDK")
чип 1210-X8L-50 В-4.7 мк ±10% TDK; NomU: 50В; TKE: X8L; Manufacturer: TDK; PartNumber: CGA6M1X8L1H475K200AC; TCh: 10%; GOST: Конденсатор CGA6M1X8L1H475K200AC фирма "TDK"
footprint C1210_H230M (Dim 3.2mm*2.5mm H=2.3mm)
pins: 1, 2
1 alternate drawing of the same symbol

## CGA6M3X7S2A475M200AE
designator C?, comment value 4,7 мк  (hidden comment: Конденсатор CGA6M3X7S2A475M200AE фирма "TDK")
чип 1210-X7S-100 В-4.7 мк ±20% TDK; NomU: 100В; TKE: X7S; Manufacturer: TDK; PartNumber: CGA6M3X7S2A475M200AE; TCh: 20%; GOST: Конденсатор CGA6M3X7S2A475M200AE фирма "TDK"
footprint C1210_H230M (Dim 3.2mm*2.5mm H=2.3mm)
pins: 1, 2
1 alternate drawing of the same symbol

## CGA6P1X8L1C226M250AC
designator C?, comment value 22 мк  (hidden comment: Конденсатор CGA6P1X8L1C226M250AC фирма "TDK")
чип 1210-X8L-16 В-22 мк ±20% TDK; NomU: 16В; TKE: X8L; Manufacturer: TDK; PartNumber: CGA6P1X8L1C226M250AC; TCh: 20%; GOST: Конденсатор CGA6P1X8L1C226M250AC фирма "TDK"
footprint C1210_H250M (Dim 3.2mm*2.5mm H=2.5mm)
pins: 1, 2
1 alternate drawing of the same symbol

## CGA6P3X7S1H106K250AB
designator C?, comment value 10 мк  (hidden comment: Конденсатор CGA6P3X7S1H106K250AB фирма "TDK")
чип 1210-X7S-50 В-10 мк ±10% TDK; NomU: 50В; TKE: X7S; Manufacturer: TDK; PartNumber: CGA6P3X7S1H106K250AB; TCh: 10%; GOST: Конденсатор CGA6P3X7S1H106K250AB фирма "TDK"
footprint C1210_H250M (Dim 3.2mm*2.5mm H=2.5mm)
pins: 1, 2
1 alternate drawing of the same symbol

## CGA6P4NP02J333J250AA
designator C?, comment value 0,033 мк  (hidden comment: Конденсатор CGA6P4NP02J333J250AA фирма "TDK")
чип 1210-NP0-630 В-0,033 мк ±5% TDK; NomU: 630В; TKE: NPO; Manufacturer: TDK; PartNumber: CGA6P4NP02J333J250AA; TCh: 5%; GOST: Конденсатор CGA6P4NP02J333J250AA фирма "TDK"
footprint C1210_H250M (Dim 3.2mm*2.5mm H=2.5mm)
pins: 1, 2
1 alternate drawing of the same symbol

## CGA8P1X7R1E226M250KC
designator C?, comment value 22 мк  (hidden comment: Конденсатор CGA8P1X7R1E226M250KC фирма "TDK")
чип 1812-X7R-25 В-22 мк ±20% TDK; NomU: 25В; TKE: X7R; Manufacturer: TDK; PartNumber: CGA8P1X7R1E226M250KC; TCh: 20%; GOST: Конденсатор CGA8P1X7R1E226M250KC фирма "TDK"
footprint C1812_H250M (Dim 4.5mm*3.2mm H=2.5mm)
pins: 1, 2
1 alternate drawing of the same symbol

## CGA8R4NP02J473J320KA
designator C?, comment value 0,047 мк  (hidden comment: Конденсатор CGA8R4NP02J473J320KA фирма "TDK")
чип 1812-NP0-630 В-0,047 мк ±5% TDK; NomU: 630В; TKE: NP0; Manufacturer: TDK; PartNumber: CGA8R4NP02J473J320KA; TCh: 5%; GOST: Конденсатор CGA8R4NP02J473J320KA фирма "TDK"
footprint C1812_H320M (Dim 4.5mm*3.2mm H=3.2mm)
pins: 1, 2
1 alternate drawing of the same symbol

## CGA9N4X7R2J224M230KA
designator C?, comment value 0,22 мк  (hidden comment: Конденсатор CGA9N4X7R2J224M230KA фирма "TDK")
чип 2220-X7R-630 В-0.22 мк ±20% TDK; NomU: 630В; TKE: X7R; Manufacturer: TDK; PartNumber: CGA9N4X7R2J224M230KA; TCh: 20%; GOST: Конденсатор CGA9N4X7R2J224M230KA фирма "TDK"
footprint C2220_H280M (Dim 5.7mm*5.0mm H=2.7mm)
pins: 1, 2
1 alternate drawing of the same symbol

## CKG57KX7R2E105K335JJ
designator C?, comment value 1 мк  (hidden comment: Конденсатор CKG57KX7R2E105K335JJ фирма "TDK")
чип 2220-X7R-250 В-1 мк ±10% TDK; NomU: 250В; TKE: X7R; Manufacturer: TDK; PartNumber: CKG57KX7R2E105K335JJ; TCh: 10%; GOST: Конденсатор CKG57KX7R2E105K335JJ фирма "TDK"; Height: 3.35mm
footprint C2220_H280M (Dim 5.7mm*5.0mm H=2.7mm)
pins: 1, 2
1 alternate drawing of the same symbol